# Altium schematic symbol library ToradexMainBoard-V0I1.SCHLIB: 303 symbols (part 4 of 14)
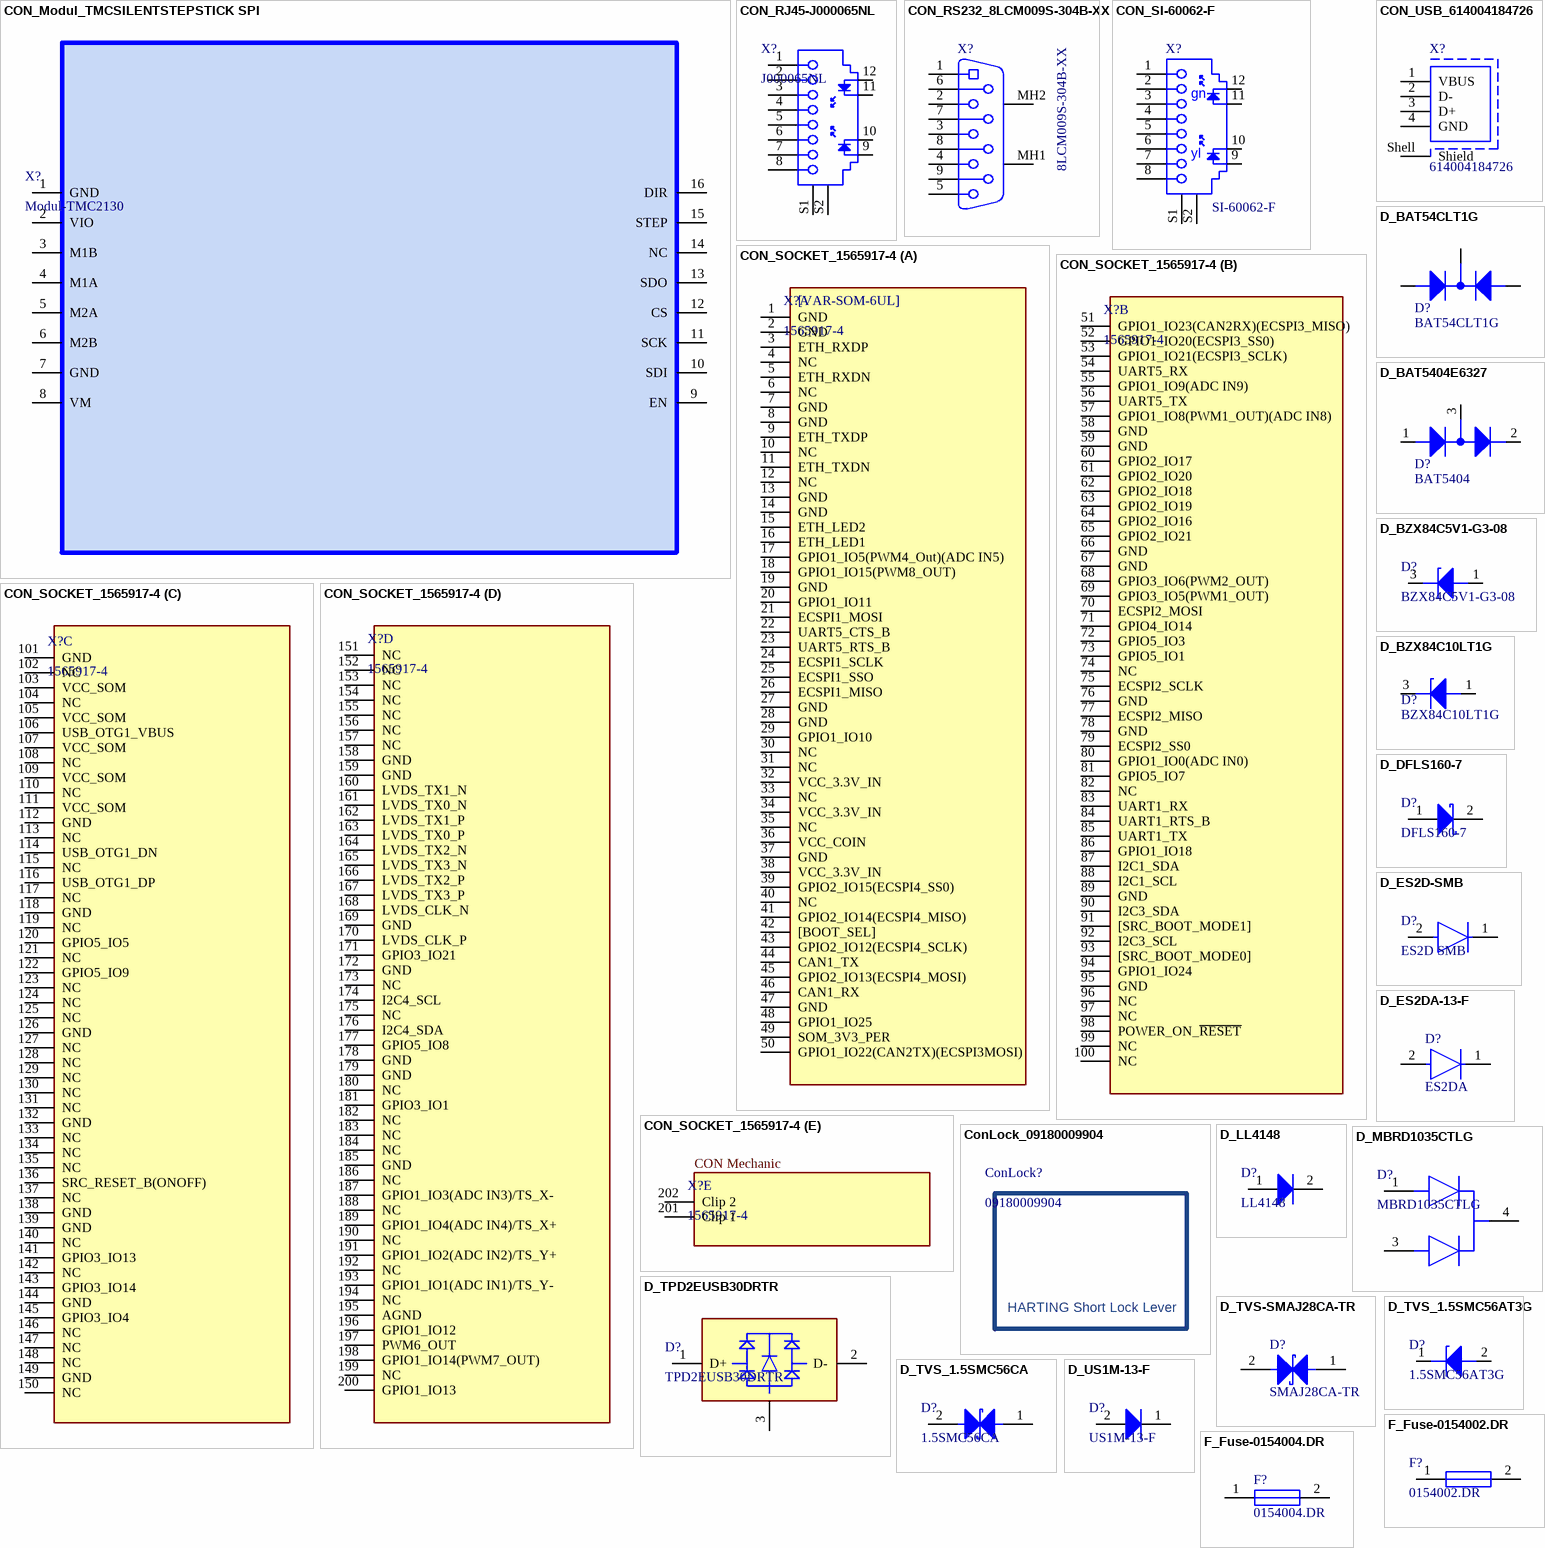
[diagram p18: symbols CON_Modul_TMCSILENTSTEPSTICK SPI to F_Fuse-0154004.DR]

## CON_Modul_TMCSILENTSTEPSTICK SPI
designator X?, comment Modul-TMC2130
TMC2130STEPPERDRIVERBOARD; Manufacturer: Trinamic; Manufacturer Part Number: TMC SILENTSTEPSTICK SPI; Supplier 1: Mouser; RoHS: No; Category: Integrated Circuits (ICs); ComponentLink1URL: http://www.farnell.com/datasheets/2551906.pdf?src-supplier=Farnell; ComponentLink1Description: http://www.farnell.com/datasheets/2551906.pdf?src-supplier=Farnell; ComponentLink2URL: https://www.trinamic.com/fileadmin/assets/Products/ICs_Documents/TMC2130_datasheet.pdf?src-supplier=Digi-Key; ComponentLink2Description: https://www.trinamic.com/fileadmin/assets/Products/ICs_Documents/TMC2130_datasheet.pdf?src-supplier=Digi-Key; Supplier Part Number 1: 700-TMCSILENTSTEPSPI
footprint TMC2130-Connectors
pins: 1 GND, 2 VIO, 3 M1B, 4 M1A, 5 M2A, 6 M2B, 7 GND, 8 VM, 9 EN, 10 SDI, 11 SCK, 12 CS, 13 SDO, 14 NC, 15 STEP, 16 DIR

## CON_RJ45-J000065NL
designator X?, comment J000065NL
Modular Connectors / Ethernet Connectors 1X1 TAB DOWN 10/100; Manufacturer: Pulse; Number of Contacts: 8; Shielding: Shielded; Gender: Female; Connector Type: RJ45; Number of Ports: 1; Number of Cores per Jack: 4; Pitch: 2.54mm; Supplier 1: Farnell; Manufacturer Part Number: J000065NL; RoHS: Yes; Category: Modular / Ethernet Connectors; Mount: Through Hole; Contact Plating: Gold; Contact Material: Bronze; Color: Green,Yellow; Housing Material: Thermoplastic; Min Operating Temperature: 0°C; Max Operating Temperature: 70°C; Termination: Solder; Orientation: Right Angle; Package Quantity: 25; Number of Rows: 1; Packaging: Bulk; Direction: Down; Number of Positions Loaded: 8; Length: 16.26mm; Depth: 21.59mm; Radiation Hardening: No; Lead Free: Lead Free; ComponentLink1URL: https://datasheet.ciiva.com/3138/+j414-3138717.pdf?src-supplier=Avnet; ComponentLink1Description: https://datasheet.ciiva.com/3138/+j414-3138717.pdf?src-supplier=Avnet; ComponentLink2URL: https://datasheet.ciiva.com/25908/+j414-25908734.pdf?src-supplier=Avnet+Europe; ComponentLink2Description: https://datasheet.ciiva.com/25908/+j414-25908734.pdf?src-supplier=Avnet+Europe; Supplier Part Number 1: 2896134
footprint T_PULSE_J00-0065NL_1 (RJ45 Connector)
pins: 1 TD+, 2 TCT, 3 TD-, 4 NC, 5 RD+, 6 RCT, 7 RD-, 8 GND, 9, 10, 11, 12, S1, S2

## CON_RS232_8LCM009S-304B-XX
designator X?, comment 8LCM009S-304B-XX
SOCKET, D PCB R/A 9 WAY - More Details; Manufacturer: Multicomp; Body Material: Steel,Metal; Gender: Receptacle; Number of Contacts: 9; Insulation Resistance: 5GR; Supplier 1: Farnell; Manufacturer Part Number: 8LCM009S-304B-XX; RoHS: Yes; Category: D-Sub Connectors; Stock 1: 31131; Pricing 1: 1=1,06000, 10=0,78600, 25=0,70500, 100=0,58300, 150=0,57200, 250=0,56100, 1000=0,54900, 1500=0,53700 (EUR); Mount: Socket; Material: Steel; Termination: Solder; REACH SVHC: No SVHC; ComponentLink1URL: https://datasheet.ciiva.com/1426/1661923-1426792.pdf?src-supplier=Element14; ComponentLink1Description: https://datasheet.ciiva.com/1426/1661923-1426792.pdf?src-supplier=Element14; ComponentLink2URL: https://datasheet.ciiva.com/1426/105896-1426793.pdf?src-supplier=Element14; ComponentLink2Description: https://datasheet.ciiva.com/1426/105896-1426793.pdf?src-supplier=Element14; Supplier Part Number 1: 1099294
footprint CON_8LCM009S-304B-XX (Connector, Body 30.8x18.4mm, Pitch 2.77mm)
pins: 1, 2, 3, 4, 5, 6, 7, 8, 9, MH1, MH2

## CON_SI-60062-F
designator X?, comment SI-60062-F
Magjack 1:1 full magnetics LED; Manufacturer: Bel; Shielding: Shielded; Connector Type: RJ45,Socket; Number of Cores per Jack: 4; Number of Ports: 1; Direction: Down; Number of Contacts: 8; Gender: Female; Pitch: 2.54mm; Supplier 1: Digi-Key; Manufacturer Part Number: SI-60062-F; RoHS: Yes; Category: Modular / Ethernet Connectors; Mount: Through Hole; Case/Package: Metal; Contact Material: Copper Alloy,Gold; Contact Plating: Gold; Color: Green,Yellow,Silver; Housing Material: Thermoplastic; Min Operating Temperature: 0°C; Max Operating Temperature: 70°C; Packaging: Tray; Package Quantity: 50; Number of Rows: 1; Orientation: Right Angle; Termination: Solder; Number of Positions Loaded: 8; Number of Positions: 8; Length: 17.98mm; Depth: 21.59mm; Width: 17.98mm; REACH SVHC: No SVHC; Lead Free: Lead Free; ComponentLink1URL: https://datasheet.ciiva.com/687/si-60062-f-687803.pdf?src-supplier=Avnet; ComponentLink1Description: https://datasheet.ciiva.com/687/si-60062-f-687803.pdf?src-supplier=Avnet; ComponentLink2URL: https://datasheet.ciiva.com/687/si-60062-f-687803.pdf?src-supplier=Digi-Key; ComponentLink2Description: https://datasheet.ciiva.com/687/si-60062-f-687803.pdf?src-supplier=Digi-Key; ComponentLink3URL: https://datasheet.ciiva.com/26360/24-0488-26360800.pdf?src-supplier=Rapid+Electronics; ComponentLink3Description: https://datasheet.ciiva.com/26360/24-0488-26360800.pdf?src-supplier=Rapid+Electronics; ComponentLink4URL: https://datasheet.ciiva.com/11726/0900766b81002b99-11726263.pdf?src-supplier=RSComponents; ComponentLink4Description: https://datasheet.ciiva.com/11726/0900766b81002b99-11726263.pdf?src-supplier=RSComponents; ComponentLink5URL: https://datasheet.ciiva.com/8042/1523782-8042508.pdf?src-supplier=Element14; ComponentLink5Description: https://datasheet.ciiva.com/8042/1523782-8042508.pdf?src-supplier=Element14; ComponentLink6URL: https://datasheet.ciiva.com/41445/001196185-da-01-en-magjack-1xrj45-mit-leds-41445639.pdf?src-supplier=Conrad; ComponentLink6Description: https://datasheet.ciiva.com/41445/001196185-da-01-en-magjack-1xrj45-mit-leds-41445639.pdf?src-supplier=Conrad; Supplier Part Number 1: 380-1106-ND; Stock 1: 3565
footprint BELF-SI-60062-F_V (MagJack, 14-Leads, Body 21.59x16.13mm)
pins: 1 TD+, 2 TCT, 3 TD-, 4 NC, 5 RD+, 6 RCT, 7 RD-, 8 GND, 9, 10, 11, 12, S1, S2
text: gn; yl

## CON_SOCKET_1565917-4
designator X?, comment 1565917-4
Conn SO DIMM Socket SKT 200 POS Solder RA SMD T/R; Manufacturer: TE Connectivity; Number of Contacts: 200; PCB Mount Retention: With; Voltage Rating: 1.8V; Memory Type: DDR2 SDRAM; Contact Current Rating: 500mA; Connector System: Cable-to-Board; Sealable: No (Without); Circuit Application: Power; Pitch: 0.6mm; Row Spacing: 0.244inch; Stack Height: 5.2mm; Supplier 1: Farnell; Manufacturer Part Number: 1565917-4; RoHS: Yes; Category: Memory Connectors; Mount: Surface Mount; Number of Pins: 200; Contact Material: Copper Alloy; Contact Plating: Gold; Housing Color: Black; Housing Material: Thermoplastic; Insulation Material: Thermoplastic; Min Operating Temperature: -67°C; Max Operating Temperature: 185°C; Number of Rows: 2; Termination: Solder; Orientation: Right Angle; Packaging: Tape and Reel; Package Quantity: 150; Number of Positions: 200; Connector Type: Socket; Series: -; Radiation Hardening: No; ELV: Compliant; Flammability Rating: UL94 V-0; REACH SVHC: Unknown; Lead Free: Lead Free; RoHS Compliant: Yes; ComponentLink1URL: https://datasheet.ciiva.com/1106/1605472-1106736.pdf?src-supplier=Newark; ComponentLink1Description: https://datasheet.ciiva.com/1106/1605472-1106736.pdf?src-supplier=Newark; ComponentLink2URL: https://datasheet.ciiva.com/16314/1565917-4-16314005.pdf?src-supplier=Future+Electronics; ComponentLink2Description: https://datasheet.ciiva.com/16314/1565917-4-16314005.pdf?src-supplier=Future+Electronics; ComponentLink3URL: https://datasheet.ciiva.com/30082/a15659174317-30082398.pdf?src-supplier=Onlinecomponents.com; ComponentLink3Description: https://datasheet.ciiva.com/30082/a15659174317-30082398.pdf?src-supplier=Onlinecomponents.com; ComponentLink4URL: https://datasheet.ciiva.com/682/eng-cd-1565917-d2-682628.pdf?src-supplier=Digi-Key; ComponentLink4Description: https://datasheet.ciiva.com/682/eng-cd-1565917-d2-682628.pdf?src-supplier=Digi-Key; Supplier Part Number 1: 1677306
footprint T_TE_1565917-4
part A pins: 1 GND, 2 GND, 3 ETH_RXDP, 4 NC, 5 ETH_RXDN, 6 NC, 7 GND, 8 GND, 9 ETH_TXDP, 10 NC, 11 ETH_TXDN, 12 NC, 13 GND, 14 GND, 15 ETH_LED2, 16 ETH_LED1, 17 GPIO1_IO5(PWM4_Out)(ADC IN5), 18 GPIO1_IO15(PWM8_OUT), 19 GND, 20 GPIO1_IO11, 21 ECSPI1_MOSI, 22 UART5_CTS_B, 23 UART5_RTS_B, 24 ECSPI1_SCLK, 25 ECSPI1_SSO, 26 ECSPI1_MISO, 27 GND, 28 GND, 29 GPIO1_IO10, 30 NC, 31 NC, 32 VCC_3.3V_IN, 33 NC, 34 VCC_3.3V_IN, 35 NC, 36 VCC_COIN, 37 GND, 38 VCC_3.3V_IN, 39 GPIO2_IO15(ECSPI4_SS0), 40 NC, 41 GPIO2_IO14(ECSPI4_MISO), 42 [BOOT_SEL], 43 GPIO2_IO12(ECSPI4_SCLK), 44 CAN1_TX, 45 GPIO2_IO13(ECSPI4_MOSI), 46 CAN1_RX, 47 GND, 48 GPIO1_IO25, 49 SOM_3V3_PER, 50 GPIO1_IO22(CAN2TX)(ECSPI3MOSI)
part B pins: 51 GPIO1_IO23(CAN2RX)(ECSPI3_MISO), 52 GPIO1_IO20(ECSPI3_SS0), 53 GPIO1_IO21(ECSPI3_SCLK), 54 UART5_RX, 55 GPIO1_IO9(ADC IN9), 56 UART5_TX, 57 GPIO1_IO8(PWM1_OUT)(ADC IN8), 58 GND, 59 GND, 60 GPIO2_IO17, 61 GPIO2_IO20, 62 GPIO2_IO18, 63 GPIO2_IO19, 64 GPIO2_IO16, 65 GPIO2_IO21, 66 GND, 67 GND, 68 GPIO3_IO6(PWM2_OUT), 69 GPIO3_IO5(PWM1_OUT), 70 ECSPI2_MOSI, 71 GPIO4_IO14, 72 GPIO5_IO3, 73 GPIO5_IO1, 74 NC, 75 ECSPI2_SCLK, 76 GND, 77 ECSPI2_MISO, 78 GND, 79 ECSPI2_SS0, 80 GPIO1_IO0(ADC IN0), 81 GPIO5_IO7, 82 NC, 83 UART1_RX, 84 UART1_RTS_B, 85 UART1_TX, 86 GPIO1_IO18, 87 I2C1_SDA, 88 I2C1_SCL, 89 GND, 90 I2C3_SDA, 91 [SRC_BOOT_MODE1], 92 I2C3_SCL, 93 [SRC_BOOT_MODE0], 94 GPIO1_IO24, 95 GND, 96 NC, 97 NC, 98 POWER_ON_~{RESET}, 99 NC, 100 NC
part C pins: 101 GND, 102 NC, 103 VCC_SOM, 104 NC, 105 VCC_SOM, 106 USB_OTG1_VBUS, 107 VCC_SOM, 108 NC, 109 VCC_SOM, 110 NC, 111 VCC_SOM, 112 GND, 113 NC, 114 USB_OTG1_DN, 115 NC, 116 USB_OTG1_DP, 117 NC, 118 GND, 119 NC, 120 GPIO5_IO5, 121 NC, 122 GPIO5_IO9, 123 NC, 124 NC, 125 NC, 126 GND, 127 NC, 128 NC, 129 NC, 130 NC, 131 NC, 132 GND, 133 NC, 134 NC, 135 NC, 136 SRC_RESET_B(ONOFF), 137 NC, 138 GND, 139 GND, 140 NC, 141 GPIO3_IO13, 142 NC, 143 GPIO3_IO14, 144 GND, 145 GPIO3_IO4, 146 NC, 147 NC, 148 NC, 149 GND, 150 NC
part D pins: 151 NC, 152 NC, 153 NC, 154 NC, 155 NC, 156 NC, 157 NC, 158 GND, 159 GND, 160 LVDS_TX1_N, 161 LVDS_TX0_N, 162 LVDS_TX1_P, 163 LVDS_TX0_P, 164 LVDS_TX2_N, 165 LVDS_TX3_N, 166 LVDS_TX2_P, 167 LVDS_TX3_P, 168 LVDS_CLK_N, 169 GND, 170 LVDS_CLK_P, 171 GPIO3_IO21, 172 GND, 173 NC, 174 I2C4_SCL, 175 NC, 176 I2C4_SDA, 177 GPIO5_IO8, 178 GND, 179 GND, 180 NC, 181 GPIO3_IO1, 182 NC, 183 NC, 184 NC, 185 GND, 186 NC, 187 GPIO1_IO3(ADC IN3)/TS_X-, 188 NC, 189 GPIO1_IO4(ADC IN4)/TS_X+, 190 NC, 191 GPIO1_IO2(ADC IN2)/TS_Y+, 192 NC, 193 GPIO1_IO1(ADC IN1)/TS_Y-, 194 NC, 195 AGND, 196 GPIO1_IO12, 197 PWM6_OUT, 198 GPIO1_IO14(PWM7_OUT), 199 NC, 200 GPIO1_IO13
part E pins: 201 Clip 1, 202 Clip 2
part A text: [VAR-SOM-6UL]
part E text: CON Mechanic

## CON_USB_614004184726
designator X?, comment 614004184726
WURTH ELEKTRONIK - 614004184726 - USB Connector, USB Type A, USB 2.0, Receptacle, 4 Ways, Through Hole Mount, Right Angle; Manufacturer: Wurth Electronics; Number of Contacts: 4; USB Standard: USB 2.0; Supplier 1: Farnell; Manufacturer Part Number: 614004184726; RoHS: Yes; Category: Connectors; Stock 1: 731; Pricing 1: 1=1,02000, 50=0,90200, 100=0,73700, 250=0,72300, 500=0,70800, 1000=0,69400 (EUR); Mount: Through Hole,Vertical; Contact Material: Copper Alloy; Contact Plating: Gold; Housing Color: White; Packaging: Tray; Connector Type: USB; Gender: Receptacle; Orientation: Right Angle; REACH SVHC: No SVHC; ComponentLink1URL: http://www.farnell.com/datasheets/2113630.pdf?src-supplier=Farnell; ComponentLink1Description: http://www.farnell.com/datasheets/2113630.pdf?src-supplier=Farnell; ComponentLink2URL: http://www.farnell.com/datasheets/2113630.pdf?src-supplier=Newark; ComponentLink2Description: http://www.farnell.com/datasheets/2113630.pdf?src-supplier=Newark; ComponentLink3URL: https://katalog.we-online.de/em/datasheet/614004184726.pdf?src-supplier=Digi-Key; ComponentLink3Description: https://katalog.we-online.de/em/datasheet/614004184726.pdf?src-supplier=Digi-Key; ComponentLink4URL: http://www.farnell.com/datasheets/2113630.pdf?src-supplier=Element14; ComponentLink4Description: http://www.farnell.com/datasheets/2113630.pdf?src-supplier=Element14; Supplier Part Number 1: 2617113
footprint CON_614004184726 (USB 2.0 Type A Up Right THT)
pins: 1 VBUS, 2 D-, 3 D+, 4 GND, Shell Shield

## ConLock_09180009904
designator ConLock?, comment 09180009904
HARTING         09180009904             Connector Accessory, Short, Locking Lever                          New; Manufacturer: HARTING Technology; Supplier 1: Farnell; Manufacturer Part Number: 09180009904; RoHS: Yes; Category: Connectors; Stock 1: 776; Pricing 1: 10=0,25800, 100=0,21300, 500=0,19600, 1000=0,17800, 2500=0,15200, 5000=0,14900 (EUR); Package Quantity: 100; Series: SEK; REACH SVHC: No SVHC; RoHS Compliant: Yes; ComponentLink1URL: https://datasheet.ciiva.com/14157/09180009904-eng-tds-14157333.pdf?src-supplier=Distrelec; ComponentLink1Description: https://datasheet.ciiva.com/14157/09180009904-eng-tds-14157333.pdf?src-supplier=Distrelec; ComponentLink2URL: https://datasheet.ciiva.com/11716/0900766b80de2029-11716648.pdf?src-supplier=RSComponents; ComponentLink2Description: https://datasheet.ciiva.com/11716/0900766b80de2029-11716648.pdf?src-supplier=RSComponents; Supplier Part Number 1: 2581274
text: HARTING Short Lock Lever

## D_BAT54CLT1G
designator D?, comment BAT54CLT1G
Diode Schottky 30V 0.2A 3-Pin SOT-23 T/R; Manufacturer: ON Semiconductor; Forward Current: 200mA; Element Configuration: Common Cathode; Max Power Dissipation: 225mW; Recovery Time: 5ns; Max Reverse Leakage Current: 2uA; Peak Non-Repetitive Surge Current: 600mA; Capacitance: 10pF; Forward Voltage: 800mV; PCBChecked: initials after Checked; Manufacturer Part Number: BAT54CLT1G; RoHS: Yes; Category: Schottky Diodes; Case/Package: SOT-23-3; Number of Pins: 3; Contact Plating: Tin,Matte; Min Operating Temperature: -55°C; Max Operating Temperature: 125°C; Packaging: Tape and Reel; Package Quantity: 3000; Average Rectified Current: 200mA; Reverse Recovery Time: 5ns; Max Repetitive Reverse Voltage (Vrrm): 30V; Max Forward Surge Current (Ifsm): 600mA; Current Rating: 200mA; Voltage Rating (DC): 30V; Max Reverse Voltage (DC): 30V; Max Surge Current: 600mA; Power Dissipation: 225mW; Peak Reverse Current: 2uA; Length: 3.04mm; Height: 1.01mm; Width: 1.4mm; Radiation Hardening: No; Lead Free: Lead Free; Halogen Free: Halogen Free; REACH SVHC: No SVHC; ComponentLink1URL: https://datasheet.ciiva.com/1240/bat54clt1-d-1240707.pdf?src-supplier=Newark; ComponentLink1Description: https://datasheet.ciiva.com/1240/bat54clt1-d-1240707.pdf?src-supplier=Newark; ComponentLink2URL: https://datasheet.ciiva.com/34301/885769-34301654.pdf?src-supplier=Jameco; ComponentLink2Description: https://datasheet.ciiva.com/34301/885769-34301654.pdf?src-supplier=Jameco; ComponentLink3URL: https://datasheet.ciiva.com/30479/0900766b8121b932-30479128.pdf?src-supplier=RSComponents; ComponentLink3Description: https://datasheet.ciiva.com/30479/0900766b8121b932-30479128.pdf?src-supplier=RSComponents; ComponentLink4URL: https://datasheet.ciiva.com/15144/getdatasheetpartid-98336-15144809.pdf?src-supplier=Verical; ComponentLink4Description: https://datasheet.ciiva.com/15144/getdatasheetpartid-98336-15144809.pdf?src-supplier=Verical; ComponentLink5URL: https://datasheet.ciiva.com/22659/1918740-22659014.pdf?src-supplier=Element14; ComponentLink5Description: https://datasheet.ciiva.com/22659/1918740-22659014.pdf?src-supplier=Element14; ComponentLink6URL: https://datasheet.ciiva.com/1180/bat54clt1-d-1180247.pdf?src-supplier=Element14; ComponentLink6Description: https://datasheet.ciiva.com/1180/bat54clt1-d-1180247.pdf?src-supplier=Element14; ComponentLink7URL: https://datasheet.ciiva.com/1180/bat54clt1-d-1180248.pdf?src-supplier=Element14; ComponentLink7Description: https://datasheet.ciiva.com/1180/bat54clt1-d-1180248.pdf?src-supplier=Element14; ComponentLink8URL: https://datasheet.ciiva.com/16205/bat54clt1-d-16205033.pdf?src-supplier=Future+Electronics; ComponentLink8Description: https://datasheet.ciiva.com/16205/bat54clt1-d-16205033.pdf?src-supplier=Future+Electronics; ComponentLink9URL: https://datasheet.ciiva.com/905/bat54clt1-d-905835.pdf?src-supplier=Digi-Key; ComponentLink9Description: https://datasheet.ciiva.com/905/bat54clt1-d-905835.pdf?src-supplier=Digi-Key; ComponentLink10URL: https://datasheet.ciiva.com/28655/bat54clt1-d-28655787.pdf?src-supplier=Element14; ComponentLink10Description: https://datasheet.ciiva.com/28655/bat54clt1-d-28655787.pdf?src-supplier=Element14; ComponentLink11URL: https://datasheet.ciiva.com/8294/bat54clt1-d-8294495.pdf?src-supplier=Avnet; ComponentLink11Description: https://datasheet.ciiva.com/8294/bat54clt1-d-8294495.pdf?src-supplier=Avnet; Stock 1: 122607; IPC7352C: done; SCHChecked: Initials after checked; Supplier 1: Avnet; Supplier Part Number 1: BAT54CLT1G
footprint BAT54CLT1G_SOT95P240X110-3N (SOT23, 3-Leads, Body 2,90x2,40mm, Pitch 0,95mm, IPC Medium Density)
pins: 1A 1, 2A 2, 3KK 3

## D_BAT5404E6327
designator D?, comment BAT5404
BAT54 Series 30 V 600 mA Surface Mount Silicon Schottky Diode - SOT-23-3; Manufacturer: Infineon; Manufacturer Part Number: BAT54-04; Forward Current: 200mA; Max Repetitive Reverse Voltage (Vrrm): 30V; Reverse Recovery Time: 5ns; Peak Reverse Current: 2uA; Max Forward Surge Current (Ifsm): 600mA; Element Configuration: Dual; Supplier 1: Mouser; RoHS: Yes; Stock 1: 12047; Pricing 1: 1=0,31000, 10=0,21500, 100=0,08700, 1000=0,06000, 3000=0,04900, 9000=0,04000 (USD); Case/Package: SOT; Number of Pins: 3; Max Operating Temperature: 150°C; Packaging: Tape and Reel; Length: 2.9mm; Height: 0.9mm; Width: 1.3mm; ComponentLink1URL: https://datasheet.ciiva.com/30479/0900766b81073edd-30479250.pdf?src-supplier=RSComponents; ComponentLink1Description: https://datasheet.ciiva.com/30479/0900766b81073edd-30479250.pdf?src-supplier=RSComponents; Supplier Part Number 1: 726-BAT5404E6327HTSA
footprint BAT5404_SOT23 (SOT23, 3-Leads, Body 2,90x2,40mm, Pitch 0,95mm, IPC Medium Density)
pins: 1 A1, 2 K2, 3 C

## D_BZX84C5V1-G3-08
designator D?, comment BZX84C5V1-G3-08
Zener Diodes 5.1 Volt 0.35W 5%; Manufacturer: Vishay; Zener Voltage: 5.1V; Power Dissipation: 300mW; Max Reverse Leakage Current: 2uA; Impedance: 60R; Element Configuration: Single; Supplier 1: Mouser; Manufacturer Part Number: BZX84C5V1-G3-08; RoHS: Yes; Category: Zener Diodes; Stock 1: 2798; Mount: Surface Mount; Case/Package: SOT-23-3; Weight: 0.00031oz; Min Operating Temperature: -55°C; Max Operating Temperature: 150°C; Packaging: Tape and Reel; Package Quantity: 3000; Voltage Tolerance: 5%; Max Power Dissipation: 300mW; Tolerance: 5%; RoHS Compliant: Yes; ComponentLink1URL: http://www.mouser.com/ds/2/427/bzx84-v--108145.pdf?src-supplier=Mouser; ComponentLink1Description: http://www.mouser.com/ds/2/427/bzx84-v--108145.pdf?src-supplier=Mouser; ComponentLink2URL: http://www.vishay.com/docs/83458/bzx84vg.pdf?src-supplier=Digi-Key; ComponentLink2Description: http://www.vishay.com/docs/83458/bzx84vg.pdf?src-supplier=Digi-Key; ComponentLink3URL: http://www.vishay.com/docs/85763/bzx84v.pdf?src-supplier=Avnet; ComponentLink3Description: http://www.vishay.com/docs/85763/bzx84v.pdf?src-supplier=Avnet; Supplier Part Number 1: 78-BZX84C5V1-G3-08
footprint BZX84C5.1V-SOT-23-3
pins: 1 A, 3 K

## D_BZX84C10LT1G
designator D?, comment BZX84C10LT1G
ON SEMICONDUCTOR - BZX84C10LT1G - Zener Single Diode, 10 V, 225 mW, SOT-23, 6 %, 3 Pins, 150 °C; Material: Plastic; Zener Voltage: 10V; Max Power Dissipation: 225mW; Voltage Tolerance: 6%; Impedance: 20R; Power Dissipation: 300mW; Max Reverse Leakage Current: 200nA; Test Current: 5mA; Zener Current: 10mA; Forward Voltage: 900mV; ESD Protection: Yes; Breakdown Voltage: 10.6V; Supplier 1: Digi-Key; Manufacturer: ON Semiconductor; Manufacturer Part Number: BZX84C10LT1G; RoHS: Yes; Category: Zener Diodes; Stock 1: 24358; Pricing 1: 1=0,13000, 10=0,11800, 25=0,11240, 100=0,04950, 250=0,04752, 500=0,03888, 1000=0,02700 (USD); Case/Package: SOT-23-3; Number of Pins: 3; Contact Plating: Tin,Matte; Min Operating Temperature: -65°C; Max Operating Temperature: 150°C; Packaging: Tape and Reel; Element Configuration: Single; Package Quantity: 3000; Tolerance: 6%; Power Rating: 225mW; Peak Reverse Current: 200nA; Voltage Rating (DC): 10V; Working Voltage: 10V; Length: 0.119inch; Height: 0.044inch; Width: 0.055inch; Radiation Hardening: No; Lead Free: Lead Free; REACH SVHC: No SVHC; Halogen Free: Halogen Free; ComponentLink1URL: https://datasheet.ciiva.com/18435/70100187-18435125.pdf?src-supplier=Allied+Electronics; ComponentLink1Description: https://datasheet.ciiva.com/18435/70100187-18435125.pdf?src-supplier=Allied+Electronics; ComponentLink2URL: https://datasheet.ciiva.com/894/bzx84c2v4lt1-d-894713.pdf?src-supplier=Digi-Key; ComponentLink2Description: https://datasheet.ciiva.com/894/bzx84c2v4lt1-d-894713.pdf?src-supplier=Digi-Key; ComponentLink3URL: https://datasheet.ciiva.com/894/bzx84c2v4lt1-d-894714.pdf?src-supplier=Digi-Key; ComponentLink3Description: https://datasheet.ciiva.com/894/bzx84c2v4lt1-d-894714.pdf?src-supplier=Digi-Key; ComponentLink4URL: https://datasheet.ciiva.com/8345/bzx84c2v4lt1-d-8345770.pdf?src-supplier=Avnet; ComponentLink4Description: https://datasheet.ciiva.com/8345/bzx84c2v4lt1-d-8345770.pdf?src-supplier=Avnet; ComponentLink5URL: https://datasheet.ciiva.com/894/bzx84c2v4lt1-d-894715.pdf?src-supplier=Digi-Key; ComponentLink5Description: https://datasheet.ciiva.com/894/bzx84c2v4lt1-d-894715.pdf?src-supplier=Digi-Key; ComponentLink6URL: https://datasheet.ciiva.com/16419/bzx84c2v4lt1-d-16419756.pdf?src-supplier=Future+Electronics; ComponentLink6Description: https://datasheet.ciiva.com/16419/bzx84c2v4lt1-d-16419756.pdf?src-supplier=Future+Electronics; ComponentLink7URL: https://datasheet.ciiva.com/8026/bzx84c2v4lt1-d-8026718.pdf?src-supplier=Element14; ComponentLink7Description: https://datasheet.ciiva.com/8026/bzx84c2v4lt1-d-8026718.pdf?src-supplier=Element14; ComponentLink8URL: https://datasheet.ciiva.com/16473/bzx84c2v4lt1-d-16473599.pdf?src-supplier=Avnet+Asia; ComponentLink8Description: https://datasheet.ciiva.com/16473/bzx84c2v4lt1-d-16473599.pdf?src-supplier=Avnet+Asia; ComponentLink9URL: https://datasheet.ciiva.com/22626/1874542-22626847.pdf?src-supplier=Element14; ComponentLink9Description: https://datasheet.ciiva.com/22626/1874542-22626847.pdf?src-supplier=Element14; Supplier Part Number 1: BZX84C10LT1GOSCT-ND
footprint BZX84C10-SOT-23-3 (SOT23, 3-Leads, Body 2.92x1.3mm, Pitch 0.95mm)
pins: 1 A, 3 K

## D_DFLS160-7
designator D?, comment DFLS160-7
DIODES INC. - DFLS160-7 - Schottky Rectifier, 60 V, 1 A, Single, PowerDI 123, 2 Pins, 500 mV; Forward Voltage: 500mV; Forward Current: 1A; Peak Reverse Current: 100uA; Max Repetitive Reverse Voltage (Vrrm): 60V; Max Forward Surge Current (Ifsm): 50A; Polarity: Standard; Capacitance: 67pF; Supplier 1: Digi-Key; Manufacturer: Diodes; Manufacturer Part Number: DFLS160-7; RoHS: Yes; Category: Schottky Diodes; Stock 1: 95119; Pricing 1: 1=0,44000, 10=0,37900, 25=0,35360, 100=0,26260, 250=0,24948, 500=0,20504, 1000=0,16665 (USD); Mount: Surface Mount; Number of Pins: 2; Contact Plating: Tin,Matte; Min Operating Temperature: -65°C; Max Operating Temperature: 150°C; Packaging: Tape and Reel; Package Quantity: 3000; Average Rectified Current: 1A; Peak Non-Repetitive Surge Current: 50A; Termination: SMD/SMT; Element Configuration: Single; Voltage Rating (DC): 60V; Current Rating: 1A; Output Current: 1A; Max Reverse Voltage (DC): 60V; Length: 2.8mm; Height: 0.98mm; Width: 1.78mm; Radiation Hardening: No; REACH SVHC: No SVHC; Lead Free: Lead Free; ComponentLink1URL: https://datasheet.ciiva.com/22695/ds30548-22695808.pdf?src-supplier=Element14; ComponentLink1Description: https://datasheet.ciiva.com/22695/ds30548-22695808.pdf?src-supplier=Element14; ComponentLink2URL: https://datasheet.ciiva.com/8301/ds30548-8301937.pdf?src-supplier=Avnet; ComponentLink2Description: https://datasheet.ciiva.com/8301/ds30548-8301937.pdf?src-supplier=Avnet; ComponentLink3URL: https://datasheet.ciiva.com/16958/0900766b80e30da9-16958716.pdf?src-supplier=Allied+Electronics; ComponentLink3Description: https://datasheet.ciiva.com/16958/0900766b80e30da9-16958716.pdf?src-supplier=Allied+Electronics; ComponentLink4URL: https://datasheet.ciiva.com/4715/ds30548-86621-4715693.pdf?src-supplier=Mouser; ComponentLink4Description: https://datasheet.ciiva.com/4715/ds30548-86621-4715693.pdf?src-supplier=Mouser; ComponentLink5URL: https://datasheet.ciiva.com/26788/dfls160-7-26788782.pdf?src-supplier=IIIC; ComponentLink5Description: https://datasheet.ciiva.com/26788/dfls160-7-26788782.pdf?src-supplier=IIIC; ComponentLink6URL: https://datasheet.ciiva.com/25947/ds30548-25947253.pdf?src-supplier=Avnet+Europe; ComponentLink6Description: https://datasheet.ciiva.com/25947/ds30548-25947253.pdf?src-supplier=Avnet+Europe; ComponentLink7URL: https://datasheet.ciiva.com/16199/ds30548-16199750.pdf?src-supplier=Future+Electronics; ComponentLink7Description: https://datasheet.ciiva.com/16199/ds30548-16199750.pdf?src-supplier=Future+Electronics; ComponentLink8URL: https://datasheet.ciiva.com/914/ds30548-914331.pdf?src-supplier=Digi-Key; ComponentLink8Description: https://datasheet.ciiva.com/914/ds30548-914331.pdf?src-supplier=Digi-Key; ComponentLink9URL: https://datasheet.ciiva.com/914/ds30548-914332.pdf?src-supplier=Digi-Key; ComponentLink9Description: https://datasheet.ciiva.com/914/ds30548-914332.pdf?src-supplier=Digi-Key; ComponentLink10URL: https://datasheet.ciiva.com/914/ds30548-914333.pdf?src-supplier=Digi-Key; ComponentLink10Description: https://datasheet.ciiva.com/914/ds30548-914333.pdf?src-supplier=Digi-Key; ComponentLink11URL: https://datasheet.ciiva.com/7964/ds30548-7964253.pdf?src-supplier=Element14; ComponentLink11Description: https://datasheet.ciiva.com/7964/ds30548-7964253.pdf?src-supplier=Element14; Supplier Part Number 1: DFLS160DICT-ND
footprint D_POWERDI123 (SOD, 2-Leads, Body 2.8x1.78mm)
pins: 1 A, 2 K

## D_ES2D-SMB
designator D?, comment ES2D SMB
ON SEMICONDUCTOR - ES2D - Fast / Ultrafast Diode, 200 V, 2 A, Single, 900 mV, 20 ns, 50 A; Manufacturer: ON Semiconductor / Fairchild; Reverse Recovery Time: 20ns; Forward Voltage: 900mV; Forward Current: 2A; Max Repetitive Reverse Voltage (Vrrm): 200V; Peak Non-Repetitive Surge Current: 50A; Max Reverse Current: 10uA; Polarity: Standard; Capacitance: 18pF; Power Dissipation: 1.66W; Supplier 1: Farnell; Manufacturer Part Number: ES2D; RoHS: Yes; Category: Rectifier Diodes; Stock 1: 13736; Pricing 1: 5=0,28400, 50=0,20400, 100=0,12300, 500=0,09090, 1500=0,08910 (EUR); Mount: Surface Mount; Case/Package: SMB; Number of Pins: 2; Min Operating Temperature: -55°C; Max Operating Temperature: 150°C; Packaging: Tape and Reel; Element Configuration: Single; Average Rectified Current: 2A; Max Reverse Voltage (DC): 200V; Package Quantity: 1; Recovery Time: 20ns; Max Surge Current: 50A; Voltage Rating (DC): 200V; Current Rating: 2A; Output Current: 2A; Max Forward Surge Current (Ifsm): 50A; Reverse Voltage: 200V; Current: 2A; Voltage: 200V; Length: 4.75mm; Width: 3.95mm; Height: 2.45mm; Radiation Hardening: No; Lead Free: Lead Free; REACH SVHC: No SVHC; ComponentLink1URL: https://datasheet.ciiva.com/910/es2a-910816.pdf?src-supplier=Digi-Key; ComponentLink1Description: https://datasheet.ciiva.com/910/es2a-910816.pdf?src-supplier=Digi-Key; ComponentLink2URL: https://datasheet.ciiva.com/4452/es2d-182553-4452884.pdf?src-supplier=Mouser; ComponentLink2Description: https://datasheet.ciiva.com/4452/es2d-182553-4452884.pdf?src-supplier=Mouser; ComponentLink3URL: https://datasheet.ciiva.com/22651/1815144-22651957.pdf?src-supplier=Element14; ComponentLink3Description: https://datasheet.ciiva.com/22651/1815144-22651957.pdf?src-supplier=Element14; ComponentLink4URL: https://datasheet.ciiva.com/910/es2a-910815.pdf?src-supplier=Digi-Key; ComponentLink4Description: https://datasheet.ciiva.com/910/es2a-910815.pdf?src-supplier=Digi-Key; ComponentLink5URL: https://datasheet.ciiva.com/25951/es2d-25951462.pdf?src-supplier=Avnet+Europe; ComponentLink5Description: https://datasheet.ciiva.com/25951/es2d-25951462.pdf?src-supplier=Avnet+Europe; ComponentLink6URL: https://datasheet.ciiva.com/8303/es2d-8303722.pdf?src-supplier=Avnet; ComponentLink6Description: https://datasheet.ciiva.com/8303/es2d-8303722.pdf?src-supplier=Avnet; ComponentLink7URL: https://datasheet.ciiva.com/8303/es2d-8303485.pdf?src-supplier=Avnet; ComponentLink7Description: https://datasheet.ciiva.com/8303/es2d-8303485.pdf?src-supplier=Avnet; ComponentLink8URL: https://datasheet.ciiva.com/910/es2a-910814.pdf?src-supplier=Digi-Key; ComponentLink8Description: https://datasheet.ciiva.com/910/es2a-910814.pdf?src-supplier=Digi-Key; Supplier Part Number 1: 1467491
footprint FB-SMB (Molded, 2-Leads, Body 4.6x3.95mm)
pins: 1 C, 2 A

## D_ES2DA-13-F
designator D?, comment ES2DA
DIODE GEN PURP 200V 2A SMA; Manufacturer: Diodes; Manufacturer Part Number: ES2DA-13-F; Reverse Recovery Time: 25ns; Element Configuration: Single; Forward Voltage: 920mV; Peak Non-Repetitive Surge Current: 50A; Peak Reverse Current: 5uA; Polarity: Standard; Capacitance: 25pF; Natural Thermal Resistance: 20°C/W; Number of Elements: 1; Supplier 1: Digi-Key; RoHS: Yes; Category: Rectifier Diodes; Stock 1: 159412; Pricing 1: 1=0,47000, 10=0,38000, 25=0,34760, 100=0,21820, 250=0,21572, 500=0,20200, 1000=0,13736, 2500=0,13170 (USD); Mount: Surface Mount; Case/Package: SMA; Number of Pins: 2; Weight: 0.002258oz; Contact Plating: Tin,Matte; Number of Terminals: 2; Min Operating Temperature: -55°C; Max Operating Temperature: 150°C; Packaging: Tape and Reel; Forward Current: 2A; Max Repetitive Reverse Voltage (Vrrm): 200V; Average Rectified Current: 2A; Max Reverse Voltage (DC): 200V; Package Quantity: 5000; Recovery Time: 25ns; Voltage Rating (DC): 200V; Current Rating: 2A; Output Current: 2A; Max Surge Current: 50A; Termination: SMD/SMT; Reverse Voltage (DC): 200V; Length: 4.6mm; Height: 2.1mm; Width: 2.92mm; Radiation Hardening: No; Lead Free: Lead Free; ComponentLink1URL: https://datasheet.ciiva.com/34302/1590647-34302598.pdf?src-supplier=Jameco; ComponentLink1Description: https://datasheet.ciiva.com/34302/1590647-34302598.pdf?src-supplier=Jameco; ComponentLink2URL: https://datasheet.ciiva.com/15144/getdatasheetpartid-91735-15144695.pdf?src-supplier=Verical; ComponentLink2Description: https://datasheet.ciiva.com/15144/getdatasheetpartid-91735-15144695.pdf?src-supplier=Verical; ComponentLink3URL: https://datasheet.ciiva.com/16440/ds14002-16440105.pdf?src-supplier=Future+Electronics; ComponentLink3Description: https://datasheet.ciiva.com/16440/ds14002-16440105.pdf?src-supplier=Future+Electronics; ComponentLink4URL: https://datasheet.ciiva.com/913/ds14002-913853.pdf?src-supplier=Digi-Key; ComponentLink4Description: https://datasheet.ciiva.com/913/ds14002-913853.pdf?src-supplier=Digi-Key; ComponentLink5URL: https://datasheet.ciiva.com/913/ds14002-913854.pdf?src-supplier=Digi-Key; ComponentLink5Description: https://datasheet.ciiva.com/913/ds14002-913854.pdf?src-supplier=Digi-Key; ComponentLink6URL: https://datasheet.ciiva.com/913/ds14002-913855.pdf?src-supplier=Digi-Key; ComponentLink6Description: https://datasheet.ciiva.com/913/ds14002-913855.pdf?src-supplier=Digi-Key; Supplier Part Number 1: ES2DA-FDICT-ND
footprint FP-SMA-MFG
pins: 1 C, 2 A

## D_LL4148
designator D?, comment LL4148
ON SEMICONDUCTOR - LL4148 - Small Signal Diode, Single, 100 V, 200 mA, 1 V, 4 ns, 2 A; Manufacturer: ON Semiconductor / Fairchild; Reverse Recovery Time: 4ns; Forward Voltage: 1V; Forward Current: 200mA; Peak Non-Repetitive Surge Current: 2A; Max Repetitive Reverse Voltage (Vrrm): 100V; Max Reverse Current: 25nA; Power Dissipation: 500mW; Supplier 1: Farnell; Manufacturer Part Number: LL4148; RoHS: Yes; Category: Rectifier Diodes; Stock 1: 150000; Pricing 1: 2500=0,01320, 7500=0,01130 (EUR); Mount: Surface Mount; Number of Pins: 2; Weight: 0.01lb; Contact Plating: Tin,Matte; Min Operating Temperature: -65°C; Max Operating Temperature: 175°C; Packaging: Tape and Reel; Element Configuration: Single; Max Reverse Voltage (DC): 100V; Average Rectified Current: 200mA; Package Quantity: 2500; Max Forward Surge Current (Ifsm): 2A; Max Surge Current: 2A; Recovery Time: 4ns; Voltage: 100V; Reverse Voltage: 100V; Length: 3.6mm; Width: 1.5mm; Height: 1.5mm; Radiation Hardening: No; Lead Free: Lead Free; REACH SVHC: No SVHC; ComponentLink1URL: https://datasheet.ciiva.com/1181/1730036-1181026.pdf?src-supplier=Element14; ComponentLink1Description: https://datasheet.ciiva.com/1181/1730036-1181026.pdf?src-supplier=Element14; ComponentLink2URL: https://datasheet.ciiva.com/8303/ll4148-8303779.pdf?src-supplier=Avnet; ComponentLink2Description: https://datasheet.ciiva.com/8303/ll4148-8303779.pdf?src-supplier=Avnet; ComponentLink3URL: https://datasheet.ciiva.com/27048/94908-27048041.pdf?src-supplier=Jameco; ComponentLink3Description: https://datasheet.ciiva.com/27048/94908-27048041.pdf?src-supplier=Jameco; ComponentLink4URL: https://datasheet.ciiva.com/4453/ll4148-70504-4453114.pdf?src-supplier=Mouser; ComponentLink4Description: https://datasheet.ciiva.com/4453/ll4148-70504-4453114.pdf?src-supplier=Mouser; ComponentLink5URL: https://datasheet.ciiva.com/910/ll4148-910343.pdf?src-supplier=Digi-Key; ComponentLink5Description: https://datasheet.ciiva.com/910/ll4148-910343.pdf?src-supplier=Digi-Key; ComponentLink6URL: https://datasheet.ciiva.com/910/ll4148-910344.pdf?src-supplier=Digi-Key; ComponentLink6Description: https://datasheet.ciiva.com/910/ll4148-910344.pdf?src-supplier=Digi-Key; ComponentLink7URL: https://datasheet.ciiva.com/910/ll4148-910345.pdf?src-supplier=Digi-Key; ComponentLink7Description: https://datasheet.ciiva.com/910/ll4148-910345.pdf?src-supplier=Digi-Key; ComponentLink8URL: https://datasheet.ciiva.com/22735/1896420-22735578.pdf?src-supplier=Element14; ComponentLink8Description: https://datasheet.ciiva.com/22735/1896420-22735578.pdf?src-supplier=Element14; ComponentLink9URL: https://datasheet.ciiva.com/26912/getdatasheetpartid-110057-26912779.pdf?src-supplier=Verical; ComponentLink9Description: https://datasheet.ciiva.com/26912/getdatasheetpartid-110057-26912779.pdf?src-supplier=Verical; ComponentLink10URL: https://datasheet.ciiva.com/8053/1896420-8053645.pdf?src-supplier=Element14; ComponentLink10Description: https://datasheet.ciiva.com/8053/1896420-8053645.pdf?src-supplier=Element14
footprint LL4148_MiniMelf (SOD, 2-Leads, Body 3.45x1.4mm)
pins: 1 A, 2 K

## D_MBRD1035CTLG
designator D?, comment MBRD1035CTLG
ON Semi MBRD1035CTLG; Dual SMT Schottky Diode; Common Cathode; 35V 10A; 3-Pin D-PAK; Manufacturer: ON Semiconductor; Forward Voltage: 560mV; Max Surge Current: 50A; Max Reverse Current: 2mA; Average Rectified Current: 5A; Supplier 1: Farnell; Manufacturer Part Number: MBRD1035CTLG; RoHS: Yes; Category: Schottky Diodes; Stock 1: 3024; Pricing 1: 1=0,94900, 10=0,77000, 100=0,51400, 500=0,44900, 1000=0,35500, 5000=0,34900 (EUR); Case/Package: DPAK; Number of Pins: 3; Contact Plating: Tin,Matte; Min Operating Temperature: -55°C; Max Operating Temperature: 150°C; Forward Current: 10A; Package Quantity: 75; Element Configuration: Common Cathode; Packaging: Rail/Tube; Max Reverse Leakage Current: 2mA; Peak Non-Repetitive Surge Current: 50A; Max Repetitive Reverse Voltage (Vrrm): 35V; Max Forward Surge Current (Ifsm): 50A; Current Rating: 10A; Voltage Rating (DC): 35V; Max Reverse Voltage (DC): 35V; Length: 6.73mm; Width: 6.22mm; Height: 2.38mm; Radiation Hardening: No; REACH SVHC: No SVHC; Lead Free: Lead Free; Halogen Free: Halogen Free; ComponentLink1URL: https://datasheet.ciiva.com/15144/getdatasheetpartid-89397-15144640.pdf?src-supplier=Verical; ComponentLink1Description: https://datasheet.ciiva.com/15144/getdatasheetpartid-89397-15144640.pdf?src-supplier=Verical; ComponentLink2URL: https://datasheet.ciiva.com/7962/56781-7962789.pdf?src-supplier=Element14; ComponentLink2Description: https://datasheet.ciiva.com/7962/56781-7962789.pdf?src-supplier=Element14; ComponentLink3URL: https://datasheet.ciiva.com/906/mbrd1035ctl-d-906052.pdf?src-supplier=Digi-Key; ComponentLink3Description: https://datasheet.ciiva.com/906/mbrd1035ctl-d-906052.pdf?src-supplier=Digi-Key; ComponentLink4URL: https://datasheet.ciiva.com/8299/mbrd1035ctl-d-8299930.pdf?src-supplier=Avnet; ComponentLink4Description: https://datasheet.ciiva.com/8299/mbrd1035ctl-d-8299930.pdf?src-supplier=Avnet; ComponentLink5URL: https://datasheet.ciiva.com/16446/mbrd1035ctl-d-16446826.pdf?src-supplier=Future+Electronics; ComponentLink5Description: https://datasheet.ciiva.com/16446/mbrd1035ctl-d-16446826.pdf?src-supplier=Future+Electronics; Supplier Part Number 1: 9556974
footprint MBRD1035CTLG-DPak
pins: 1 A, 3 A, 4 C

## D_TPD2EUSB30DRTR
designator D?, comment TPD2EUSB30DRTR
TEXAS INSTRUMENTS - TPD2EUSB30DRTR - ESD Protection Device, 8 V, SOT, 3 Pins, TPD2E Series; Direction: Unidirectional,Bidirectional; Capacitance: 0.8pF; Number of Bidirectional Channels: 2; Reverse Standoff Voltage: 5.5V; Min Breakdown Voltage: 9V; Clamping Voltage: 8V; Peak Pulse Power: 45W; Power Line Protection: Yes; Test Current: 1mA; Element Configuration: Dual; Peak Pulse Current: 1A; Interface: USB; Supplier 1: Mouser; Manufacturer: Texas Instruments; Manufacturer Part Number: TPD2EUSB30DRTR; RoHS: Yes; Category: Interface ICs; Pricing 1: 1=0,66000, 10=0,56100, 50=0,56100, 100=0,41900, 1000=0,25500, 10000=0,23100, 1=0,55900, 10=0,47500, 100=0,35500, 500=0,27900, 1000=0,21600, 3000=0,19600 (USD); Case/Package: SOT; Number of Pins: 3; Min Operating Temperature: -40°C; Max Operating Temperature: 85°C; Packaging: Tape and Reel; Package Quantity: 1; Breakdown Voltage: 9V; Number of Channels: 2; Working Voltage: 5.5V; ESD Protection: Yes; Length: 1mm; Width: 0.85mm; Height: 0.45mm; Depth: 0.8mm; Radiation Hardening: No; REACH SVHC: No SVHC; Lead Free: Lead Free; RoHS Compliant: Yes; ComponentLink1URL: https://datasheet.ciiva.com/1611/tpd2eusb30-1611602.pdf?src-supplier=Newark; ComponentLink1Description: https://datasheet.ciiva.com/1611/tpd2eusb30-1611602.pdf?src-supplier=Newark; ComponentLink2URL: https://datasheet.ciiva.com/15134/getdatasheetpartid-202713-15134479.pdf?src-supplier=Verical; ComponentLink2Description: https://datasheet.ciiva.com/15134/getdatasheetpartid-202713-15134479.pdf?src-supplier=Verical; ComponentLink3URL: https://datasheet.ciiva.com/26787/tpd2eusb30drtr-26787652.pdf?src-supplier=IIIC; ComponentLink3Description: https://datasheet.ciiva.com/26787/tpd2eusb30drtr-26787652.pdf?src-supplier=IIIC; ComponentLink4URL: https://datasheet.ciiva.com/1504/1882087-1504248.pdf?src-supplier=Element14; ComponentLink4Description: https://datasheet.ciiva.com/1504/1882087-1504248.pdf?src-supplier=Element14; ComponentLink5URL: https://datasheet.ciiva.com/353/tpd2eusb30-353273.pdf?src-supplier=Digi-Key; ComponentLink5Description: https://datasheet.ciiva.com/353/tpd2eusb30-353273.pdf?src-supplier=Digi-Key; ComponentLink6URL: https://datasheet.ciiva.com/353/tpd2eusb30-353272.pdf?src-supplier=Digi-Key; ComponentLink6Description: https://datasheet.ciiva.com/353/tpd2eusb30-353272.pdf?src-supplier=Digi-Key; ComponentLink7URL: https://datasheet.ciiva.com/353/tpd2eusb30-353274.pdf?src-supplier=Digi-Key; ComponentLink7Description: https://datasheet.ciiva.com/353/tpd2eusb30-353274.pdf?src-supplier=Digi-Key; ComponentLink8URL: https://datasheet.ciiva.com/25956/tpd4eusb30-25956841.pdf?src-supplier=Avnet+Europe; ComponentLink8Description: https://datasheet.ciiva.com/25956/tpd4eusb30-25956841.pdf?src-supplier=Avnet+Europe; Supplier Part Number 1: 595-TPD2EUSB30DRTR
footprint DRT0003A
pins: 1 D+, 2 D-, 3 GND

## D_TVS-SMAJ28CA-TR
designator D?, comment SMAJ28CA-TR
TVS DIODE 28V 59V SMA; Manufacturer: STMicroelectronics; Direction: Bidirectional; Standoff Height: 0.05mm; Peak Pulse Current: 8.8A; Max Junction Temp: +150°C; Peak Pulse Power: 400W; Breakdown Voltage: 31.1V; Clamping Voltage: 45.4V; Number Of Channels: 1; Octopart: https://octopart.com/smaj28ca-tr-stmicroelectronics-347152; Height: 2.65mm; Automotive: No; Device Class L2: TVS Diodes; Package: DO-214AC; Digikey Description: TVS DIODE 28V 59V SMA; Reverse Standoff Voltage: 28V; Lead Free: Yes; Temperature Range Low: -55°C; Temperature Range High: +150°C; RoHS: TRUE; Device Class L3: unset; ComponentLink2Description: Datasheet; Temperature: -55°C to +150°C; ComponentLink2URL: https://upverter.com/datasheet/1a345e3312871ddec8fb928d76575f5007a64ef0.pdf; Mouser Description: TVS Diodes - Transient Voltage Suppressors 400W 28V Bidirect; Category: Diode; Manufacturer Part Number: SMAJ28CA-TR; Device Class L1: Circuit Protection
footprint D-SMAJ28CA-TR-MFG (TVS Diode SMAJ28CA)
pins: 1, 2

## D_TVS_1.5SMC56AT3G
designator D?, comment 1.5SMC56AT3G
TVS DIODE 47.8V 77V SMC; Manufacturer: ON Semiconductor; Peak Pulse Power: 1.5kW; Peak Pulse Current: 19.5A; Min Breakdown Voltage: 53.2V; Polarity: Unidirectional; Number of Channels: 1; Power Line Protection: No; Max Reverse Leakage Current: 5uA; Test Current: 1mA; Element Configuration: Single; ESD Protection: Yes; Max Breakdown Voltage: 58.8V; Working Voltage: 3.5V; Supplier 1: Mouser; Manufacturer Part Number: 1.5SMC56AT3G; RoHS: Yes; Category: TVS Diodes; Case/Package: SMC; Number of Pins: 2; Contact Plating: Tin,Matte; Min Operating Temperature: -65°C; Max Operating Temperature: 150°C; Clamping Voltage: 77V; Packaging: Tape and Reel; Reverse Standoff Voltage: 47.8V; Package Quantity: 1; Operating Supply Voltage: 47.8V; Max Surge Current: 19.5A; Breakdown Voltage: 53.2V; Number of Unidirectional Channels: 1; Resistor Type: Zener; Direction: Unidirectional; Reverse Breakdown Voltage: 53.2V; Number of Elements: 1; Leakage Current: 5uA; Termination: SMD/SMT; Power Dissipation: 1.5kW; Length: 0.279inch; Width: 0.24inch; Height: 0.095inch; Radiation Hardening: No; Lead Free: Lead Free; Halogen Free: Halogen Free; ComponentLink1URL: https://datasheet.ciiva.com/15143/getdatasheetpartid-40946-15143068.pdf?src-supplier=Verical; ComponentLink1Description: https://datasheet.ciiva.com/15143/getdatasheetpartid-40946-15143068.pdf?src-supplier=Verical; ComponentLink2URL: https://datasheet.ciiva.com/354/1-5smc6-8at3-d-354389.pdf?src-supplier=Digi-Key; ComponentLink2Description: https://datasheet.ciiva.com/354/1-5smc6-8at3-d-354389.pdf?src-supplier=Digi-Key; ComponentLink3URL: https://datasheet.ciiva.com/354/1-5smc6-8at3-d-354390.pdf?src-supplier=Digi-Key; ComponentLink3Description: https://datasheet.ciiva.com/354/1-5smc6-8at3-d-354390.pdf?src-supplier=Digi-Key; ComponentLink4URL: https://datasheet.ciiva.com/354/1-5smc6-8at3-d-354391.pdf?src-supplier=Digi-Key; ComponentLink4Description: https://datasheet.ciiva.com/354/1-5smc6-8at3-d-354391.pdf?src-supplier=Digi-Key; ComponentLink5URL: https://datasheet.ciiva.com/18434/70100223-18434600.pdf?src-supplier=Allied+Electronics; ComponentLink5Description: https://datasheet.ciiva.com/18434/70100223-18434600.pdf?src-supplier=Allied+Electronics; ComponentLink6URL: https://datasheet.ciiva.com/4509/1-5smc6-8at3-d-4509177.pdf?src-supplier=Mouser; ComponentLink6Description: https://datasheet.ciiva.com/4509/1-5smc6-8at3-d-4509177.pdf?src-supplier=Mouser; Supplier Part Number 1: 863-1.5SMC56AT3G
footprint D-TVS_SMC_UNI
pins: 1 K, 2 A

## D_TVS_1.5SMC56CA
designator D?, comment 1.5SMC56CA
TVS DIODE 47.8VWM 77VC SMD; Manufacturer: Littelfuse; Clamping Voltage: 77V; Peak Pulse Power: 1.5kW; Reverse Standoff Voltage: 47.8V; Peak Pulse Current: 19.7A; Min Breakdown Voltage: 53.2V; Polarity: Bidirectional; Number of Channels: 1; Test Current: 1mA; Power Line Protection: No; Leakage Current: 1uA; Voltage Rating (DC): 56V; Supplier 1: Mouser; Manufacturer Part Number: 1.5SMC56CA; RoHS: Yes; Category: TVS Diodes; Stock 1: 1268; Mount: Surface Mount; Number of Pins: 2; Min Operating Temperature: -65°C; Max Operating Temperature: 150°C; Packaging: Tape and Reel; Operating Supply Voltage: 47.8V; Max Surge Current: 19.7A; Breakdown Voltage: 53.2V; Package Quantity: 3000; Resistor Type: Zener; Number of Bidirectional Channels: 1; Reverse Breakdown Voltage: 53.2V; Number of Elements: 1; Termination: SMD/SMT; Length: 8.13mm; Width: 6.22mm; Height: 2.62mm; Radiation Hardening: No; Lead Free: Lead Free; ComponentLink1URL: https://datasheet.ciiva.com/348/littelfuse-tvs-diode-1-5smc-datasheet-pdf-348874.pdf?src-supplier=Digi-Key; ComponentLink1Description: https://datasheet.ciiva.com/348/littelfuse-tvs-diode-1-5smc-datasheet-pdf-348874.pdf?src-supplier=Digi-Key; Supplier Part Number 1: 576-1.5SMC56CA
footprint D-TVS_SMC
pins: 1, 2

## D_US1M-13-F
designator D?, comment US1M-13-F
Diode Switching 1KV 1A 2-Pin SMA T/R; Manufacturer: Diodes; Element Configuration: Single; Forward Voltage: 1.7V; Reverse Recovery Time: 75ns; Peak Non-Repetitive Surge Current: 30A; Max Reverse Current: 5uA; Polarity: Standard; Capacitance: 10pF; Supplier 1: Farnell; Manufacturer Part Number: US1M-13-F; RoHS: Yes; Category: Rectifier Diodes; Stock 1: 15876; Pricing 1: 5=0,29300, 25=0,21800, 100=0,14200, 250=0,12400, 500=0,10500, 1000=0,08140, 5000=0,07050 (EUR); Mount: Surface Mount; Case/Package: SMA; Number of Pins: 2; Weight: 0.002258oz; Contact Plating: Tin,Matte; Min Operating Temperature: -65°C; Max Operating Temperature: 150°C; Packaging: Tape and Reel; Average Rectified Current: 1A; Max Reverse Voltage (DC): 1kV; Max Repetitive Reverse Voltage (Vrrm): 1kV; Package Quantity: 5000; Forward Current: 1A; Recovery Time: 75ns; Max Surge Current: 30A; Max Forward Surge Current (Ifsm): 30A; Voltage Rating (DC): 1kV; Current Rating: 1A; Output Current: 1A; Termination: SMD/SMT; Reverse Voltage (DC): 1kV; Length: 4.6mm; Width: 2.92mm; Height: 2.1mm; Radiation Hardening: No; Lead Free: Lead Free; REACH SVHC: No SVHC; ComponentLink1URL: https://datasheet.ciiva.com/27052/1542696-27052440.pdf?src-supplier=Jameco; ComponentLink1Description: https://datasheet.ciiva.com/27052/1542696-27052440.pdf?src-supplier=Jameco; ComponentLink2URL: https://datasheet.ciiva.com/4454/ds16008-60440-4454096.pdf?src-supplier=Mouser; ComponentLink2Description: https://datasheet.ciiva.com/4454/ds16008-60440-4454096.pdf?src-supplier=Mouser; ComponentLink3URL: https://datasheet.ciiva.com/917/ds16008-917195.pdf?src-supplier=Digi-Key; ComponentLink3Description: https://datasheet.ciiva.com/917/ds16008-917195.pdf?src-supplier=Digi-Key; ComponentLink4URL: https://datasheet.ciiva.com/917/ds16008-917196.pdf?src-supplier=Digi-Key; ComponentLink4Description: https://datasheet.ciiva.com/917/ds16008-917196.pdf?src-supplier=Digi-Key; ComponentLink5URL: https://datasheet.ciiva.com/22695/1906610-22695853.pdf?src-supplier=Element14; ComponentLink5Description: https://datasheet.ciiva.com/22695/1906610-22695853.pdf?src-supplier=Element14; ComponentLink6URL: https://datasheet.ciiva.com/8301/ds16008-8301519.pdf?src-supplier=Avnet; ComponentLink6Description: https://datasheet.ciiva.com/8301/ds16008-8301519.pdf?src-supplier=Avnet; ComponentLink7URL: https://datasheet.ciiva.com/8303/ds16008-8303103.pdf?src-supplier=Avnet; ComponentLink7Description: https://datasheet.ciiva.com/8303/ds16008-8303103.pdf?src-supplier=Avnet; Supplier Part Number 1: 1858603
footprint US1M-SMA-2_A_V (SMA, 2-Leads, Body 4.3x2.605mm)
pins: 1 A, 2 K

## F_Fuse-0154002.DR
designator F?, comment 0154002.DR
LITTELFUSE   0154002.DR.   FUSE BLOCK W/ 2A FUSE, FAST ACTING; Color: White; Body Material: Ceramic,Thermoplastic; Voltage Rating (AC): 125V; DC Cold Resistance: 36.7mR; Power Dissipation: 125W; Fuse Type: Board Mount (Cartridge Style Excluded); Approvals: UL,PSE; Supplier 1: Farnell; Manufacturer: Littelfuse; Manufacturer Part Number: 0154002.DR; RoHS: Yes; Category: Fuses; Stock 1: 3151; Pricing 1: 1=3,03000, 50=1,67000, 100=1,53000, 250=1,40000, 500=1,27000 (EUR); Mount: Surface Mount,Holder; Case/Package: SMD/SMT; Number of Pins: 2; Terminal Material: Copper; Min Operating Temperature: -55°C; Max Operating Temperature: 125°C; Current Rating: 2A; Packaging: Tape and Reel; Package Quantity: 1500; Voltage Rating (DC): 125V; Series: OMNI-BLOK® 154; Voltage Rating: 125V; Working Voltage: 125V; Fuse Current: 2A; Termination: SMD/SMT; Length: 9.73mm; Width: 5.03mm; Height: 3.81mm; Depth: 5.03mm; Size: 5.03mm; Radiation Hardening: No; RoHS Compliant: Yes; Lead Free: Lead Free; REACH SVHC: Unknown; Flammability Rating: UL94 V-0; ComponentLink1URL: https://datasheet.ciiva.com/34302/1708908-34302645.pdf?src-supplier=Jameco; ComponentLink1Description: https://datasheet.ciiva.com/34302/1708908-34302645.pdf?src-supplier=Jameco; ComponentLink2URL: https://datasheet.ciiva.com/1268/1840330-1268626.pdf?src-supplier=Element14; ComponentLink2Description: https://datasheet.ciiva.com/1268/1840330-1268626.pdf?src-supplier=Element14; ComponentLink3URL: https://datasheet.ciiva.com/15187/getdatasheetpartid-111161-15187895.pdf?src-supplier=Verical; ComponentLink3Description: https://datasheet.ciiva.com/15187/getdatasheetpartid-111161-15187895.pdf?src-supplier=Verical; ComponentLink4URL: https://datasheet.ciiva.com/28499/154-28499723.pdf?src-supplier=Element14; ComponentLink4Description: https://datasheet.ciiva.com/28499/154-28499723.pdf?src-supplier=Element14; ComponentLink5URL: https://datasheet.ciiva.com/46406/1840330-46406108.pdf?src-supplier=Element14; ComponentLink5Description: https://datasheet.ciiva.com/46406/1840330-46406108.pdf?src-supplier=Element14; ComponentLink6URL: https://datasheet.ciiva.com/14102/aa154xxx-data-e-14102958.pdf?src-supplier=Distrelec; ComponentLink6Description: https://datasheet.ciiva.com/14102/aa154xxx-data-e-14102958.pdf?src-supplier=Distrelec; ComponentLink7URL: https://datasheet.ciiva.com/22712/1840330-22712959.pdf?src-supplier=Element14; ComponentLink7Description: https://datasheet.ciiva.com/22712/1840330-22712959.pdf?src-supplier=Element14; ComponentLink8URL: https://datasheet.ciiva.com/28622/88932-28622783.pdf?src-supplier=Element14; ComponentLink8Description: https://datasheet.ciiva.com/28622/88932-28622783.pdf?src-supplier=Element14; Supplier Part Number 1: 9943641
footprint F_FUSE-154002 (Littlefuse 154005 im Sockel)
pins: 1, 2